# Altium schematic symbol library STABILIZERS_MKlib.SchLib: 23 symbols
Pins are listed as number, name and electrical type; pins without a type are passive.

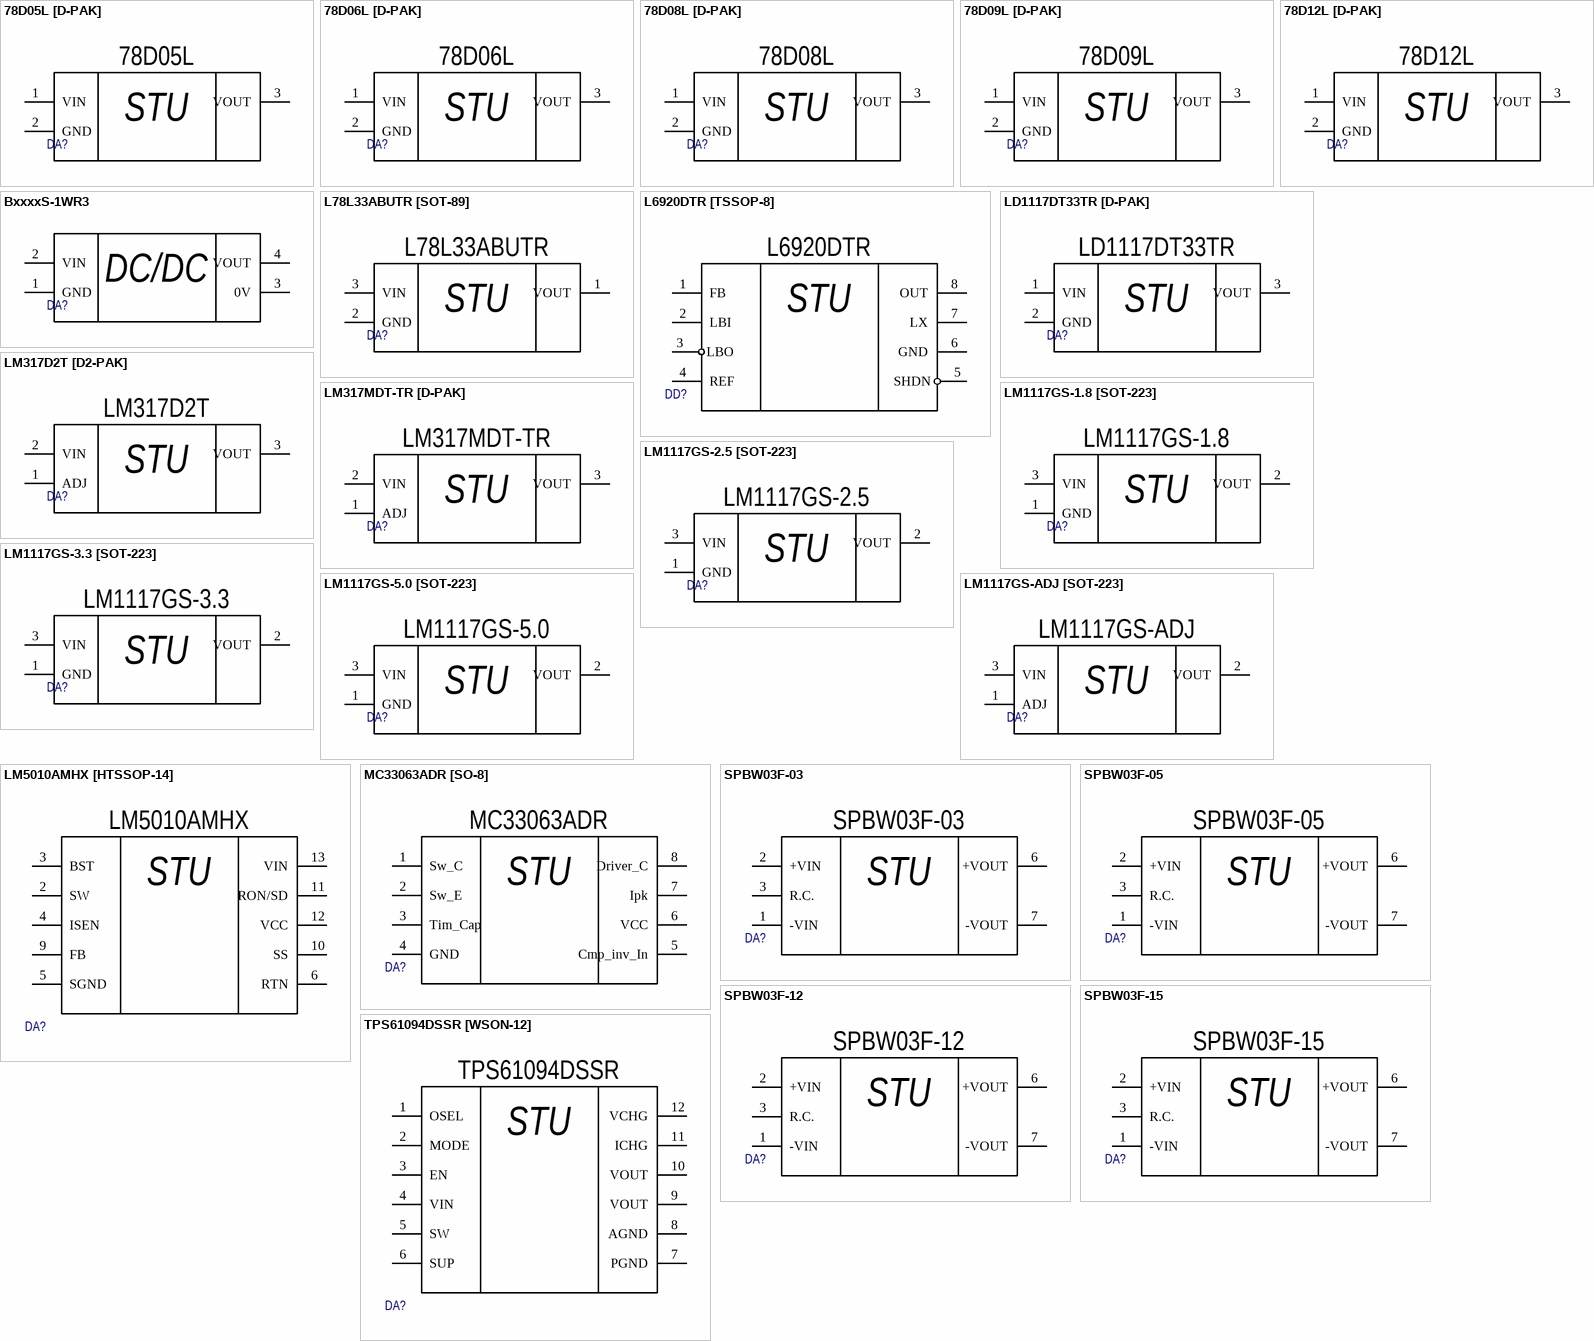
[diagram p0: symbols 78D05L [D-PAK] to TPS61094DSSR [WSON-12]]

## 78D05L [D-PAK]
designator DA?  (value not drawn)
footprint 78D**L [DPAK]
pins: 1 VIN, 2 GND, 3 VOUT
text: 78D05L; STU

## 78D06L [D-PAK]
designator DA?  (value not drawn)
footprint 78D**L [DPAK]
pins: 1 VIN, 2 GND, 3 VOUT
text: 78D06L; STU

## 78D08L [D-PAK]
designator DA?  (value not drawn)
footprint 78D**L [DPAK]
pins: 1 VIN, 2 GND, 3 VOUT
text: 78D08L; STU

## 78D09L [D-PAK]
designator DA?  (value not drawn)
footprint 78D**L [DPAK]
pins: 1 VIN, 2 GND, 3 VOUT
text: 78D09L; STU

## 78D12L [D-PAK]
designator DA?  (value not drawn)
footprint 78D**L [DPAK]
pins: 1 VIN, 2 GND, 3 VOUT
text: 78D12L; STU

## BxxxxS-1WR3
designator DA?  (value not drawn)
1W isolated DC-DC converter / Fixed input voltage, unregulated single output
pins: 1 GND, 2 VIN, 3 0V, 4 VOUT
text: DC/DC

## L78L33ABUTR [SOT-89]
designator DA?  (value not drawn)
footprint L78L33ABUTR [SOT-89]
pins: 1 VOUT, 2 GND, 3 VIN
text: L78L33ABUTR; STU

## L6920DTR [TSSOP-8]
designator DD?  (value not drawn)
DC-DC step-up converter.
footprint L6920DTR [TSSOP-8]
pins: 1 FB, 2 LBI, 3 LBO, 4 REF, 5 SHDN, 6 GND, 7 LX, 8 OUT
text: L6920DTR; STU

## LD1117DT33TR [D-PAK]
designator DA?  (value not drawn)
LDO regulator 3.3V 0.8A
footprint LD1117DT33TR [D-PAK]
pins: 1 VIN, 2 GND, 3 VOUT
text: LD1117DT33TR; STU

## LM317D2T [D2-PAK]
designator DA?  (value not drawn)
footprint LM317D2T [D2PAK]
pins: 1 ADJ, 2 VIN, 3 VOUT
text: LM317D2T; STU

## LM317MDT-TR [D-PAK]
designator DA?  (value not drawn)
footprint LM317MDT-TR [D-PAK]
pins: 1 ADJ, 2 VIN, 3 VOUT
text: LM317MDT-TR; STU

## LM1117GS-1.8 [SOT-223]
designator DA?  (value not drawn)
footprint LM1117 [SOT-223]
pins: 1 GND, 2 VOUT, 3 VIN
text: LM1117GS-1.8; STU

## LM1117GS-2.5 [SOT-223]
designator DA?  (value not drawn)
footprint LM1117 [SOT-223]
pins: 1 GND, 2 VOUT, 3 VIN
text: LM1117GS-2.5; STU

## LM1117GS-3.3 [SOT-223]
designator DA?  (value not drawn)
footprint LM1117 [SOT-223]
pins: 1 GND, 2 VOUT, 3 VIN
text: LM1117GS-3.3; STU

## LM1117GS-5.0 [SOT-223]
designator DA?  (value not drawn)
footprint LM1117 [SOT-223]
pins: 1 GND, 2 VOUT, 3 VIN
text: LM1117GS-5.0; STU

## LM1117GS-ADJ [SOT-223]
designator DA?  (value not drawn)
footprint LM1117 [SOT-223]
pins: 1 ADJ, 2 VOUT, 3 VIN
text: LM1117GS-ADJ; STU

## LM5010AMHX [HTSSOP-14]
designator DA?  (value not drawn)
footprint LM5010AMHX [HTSSOP-14]
pins: 2 SW, 3 BST, 4 ISEN, 5 SGND, 6 RTN, 9 FB, 10 SS, 11 RON/SD, 12 VCC, 13 VIN
text: LM5010AMHX; STU

## MC33063ADR [SO-8]
designator DA?  (value not drawn)
footprint MC33063ADR [SO-8]
pins: 1 Sw_C, 2 Sw_E, 3 Tim_Cap, 4 GND, 5 Cmp_inv_In, 6 VCC, 7 Ipk, 8 Driver_C
text: MC33063ADR; STU

## SPBW03F-03
designator DA?  (value not drawn)
Isolated DC-DC converter. Output: 3.3V, 700mA. Input: 9V - 36V.
footprint SPBW03 [SIP-8]
pins: 1 -VIN, 2 +VIN, 3 R.C., 6 +VOUT, 7 -VOUT
text: STU

## SPBW03F-05
designator DA?  (value not drawn)
Isolated DC-DC converter. Output: 5V, 600mA. Input: 9V - 36V.
footprint SPBW03 [SIP-8]
pins: 1 -VIN, 2 +VIN, 3 R.C., 6 +VOUT, 7 -VOUT
text: STU

## SPBW03F-12
designator DA?  (value not drawn)
Isolated DC-DC converter. Output: 12V, 250mA. Input: 9V - 36V.
footprint SPBW03 [SIP-8]
pins: 1 -VIN, 2 +VIN, 3 R.C., 6 +VOUT, 7 -VOUT
text: STU

## SPBW03F-15
designator DA?  (value not drawn)
Isolated DC-DC converter. Output: 15V, 200mA. Input: 9V - 36V.
footprint SPBW03 [SIP-8]
pins: 1 -VIN, 2 +VIN, 3 R.C., 6 +VOUT, 7 -VOUT
text: STU

## TPS61094DSSR [WSON-12]
designator DA?  (value not drawn)
pins: 1 OSEL, 2 MODE, 3 EN, 4 VIN, 5 SW, 6 SUP, 7 PGND, 8 AGND, 9 VOUT, 10 VOUT, 11 ICHG, 12 VCHG
text: TPS61094DSSR; STU